# Altium schematic symbol library ALL_IN_PJ.SchLib: 6 symbols
Pins are listed as number, name and electrical type; pins without a type are passive.

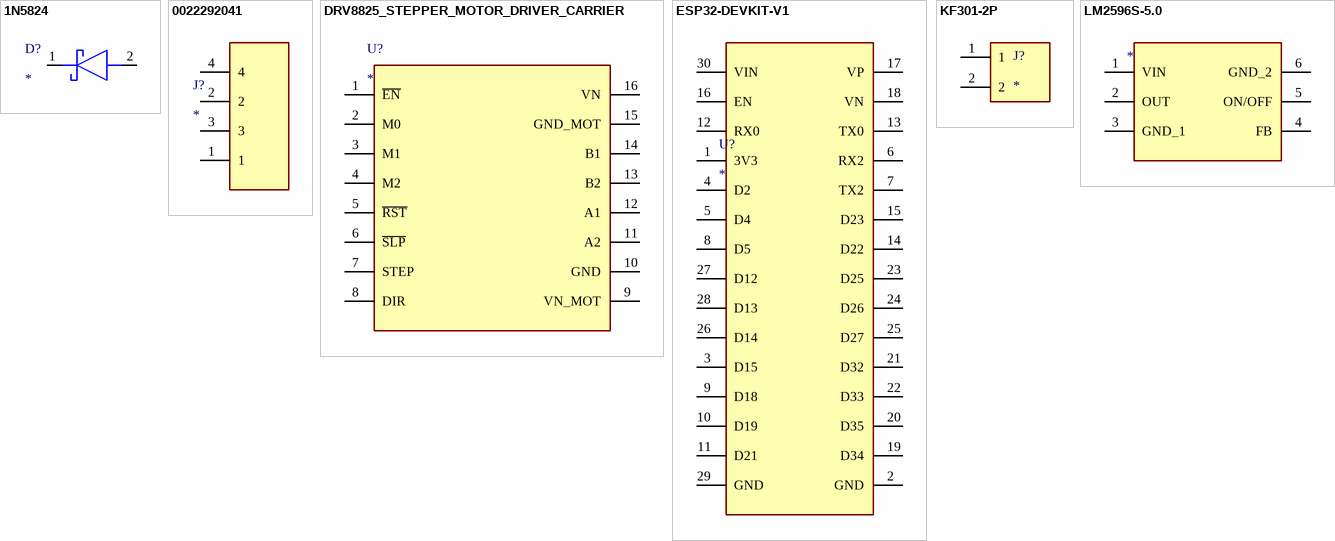
[diagram p0: symbols 1N5824 to LM2596S-5.0]

## 1N5824
designator D?
Schottky Diode; Manufacturer_Name: Microchip; Manufacturer_Part_Number: 1N5824; Datasheet Link: https://www.microsemi.com/document-portal/doc_download/5865-1n5823-25-datasheet; Height: 11.43mm; Mouser Part Number: 494-1N5824; Mouser Price/Stock: https://www.mouser.co.uk/ProductDetail/Microchip-Technology/1N5824?qs=TXMzd3F6EyleEEWqakQxJw%3D%3D; Arrow Part Number: 1N5824; Arrow Price/Stock: https://www.arrow.com/en/products/1n5824/microchip-technology?utm_currency=USD&region=nac
footprint DIOM5026X262N
pins: 1 K, 2 A

## 0022292041
designator J?
Connector; Manufacturer_Name: Molex; Manufacturer_Part_Number: 0022292041; Datasheet Link: https://www.molex.com/pdm_docs/sd/022292041_sd.pdf; Height: 12.05mm; Mouser Part Number: N/A; Mouser Price/Stock: https://www.mouser.co.uk/ProductDetail/Molex/0022292041?qs=PBcRNPEHKsq3yGXZ0ocRTw%3D%3D; Arrow Part Number: 0022292041; Arrow Price/Stock: https://www.arrow.com/en/products/0022292041/molex?region=europe
footprint 0022292041
pins: 1, 2, 3, 4

## DRV8825_STEPPER_MOTOR_DRIVER_CARRIER
designator U?
Stepper motor controler; IC: DRV8825; 1.5A; Uin mot: 8.2Ã·45V; MP: DRV8825_STEPPER_MOTOR_DRIVER_CARRIER; Availability: Unavailable; Value: *; Price: None; Package: None
footprint IC_DRV8825_STEPPER_MOTOR_DRIVER_CARRIER
pins: 1 ~{EN}, 2 M0, 3 M1, 4 M2, 5 ~{RST}, 6 ~{SLP}, 7 STEP, 8 DIR, 9 VN_MOT (power), 10 GND, 11 A2, 12 A1, 13 B2, 14 B1, 15 GND_MOT (power), 16 VN (power)

## ESP32-DEVKIT-V1
designator U?
Dual core, Wi-Fi: 2.4 GHz up to 150 Mbits/s,BLE (Bluetooth Low Energy) and legacy Bluetooth, 32 bits, Up to 240 MHz; MP: ESP32-DEVKIT-V1; MF: Do it; Price: None; Availability: Not in stock; Package: None; Value: *; SnapEDA_Link: https://www.snapeda.com/parts/ESP32-DEVKIT-V1/Do+it/view-part/?ref=snap; Check_prices: https://www.snapeda.com/parts/ESP32-DEVKIT-V1/Do+it/view-part/?ref=eda
footprint MODULE_ESP32_DEVKIT_V1
pins: 1 3V3, 2 GND, 3 D15, 4 D2, 5 D4, 6 RX2, 7 TX2, 8 D5, 9 D18, 10 D19, 11 D21, 12 RX0, 13 TX0, 14 D22, 15 D23, 16 EN, 17 VP, 18 VN, 19 D34, 20 D35, 21 D32, 22 D33, 23 D25, 24 D26, 25 D27, 26 D14, 27 D12, 28 D13, 29 GND, 30 VIN

## KF301-2P
designator J?
2 Pin Terminal Block 5mm Pitch; MP: KF301-2P; Price: None; Value: *; Package: None; Availability: Unavailable
footprint HANDSON_KF301-2P
pins: 1, 2

## LM2596S-5.0
designator U?
footprint KTT0005B
pins: 1 VIN, 2 OUT, 3 GND_1, 4 FB, 5 ON/OFF, 6 GND_2